# Altium footprint library PCB.PcbLib: 60 footprints (part 3 of 4)
Each footprint in its own frame and in the unit in brackets; x right, y up, seen from the top. Pads: shape width x height; smd on the part's side, far side on the other; paste and mask are expansions set on the pad; w line width, h text height; cw(c..) or ccw(c..) is an arc to the next point about the centre after c.
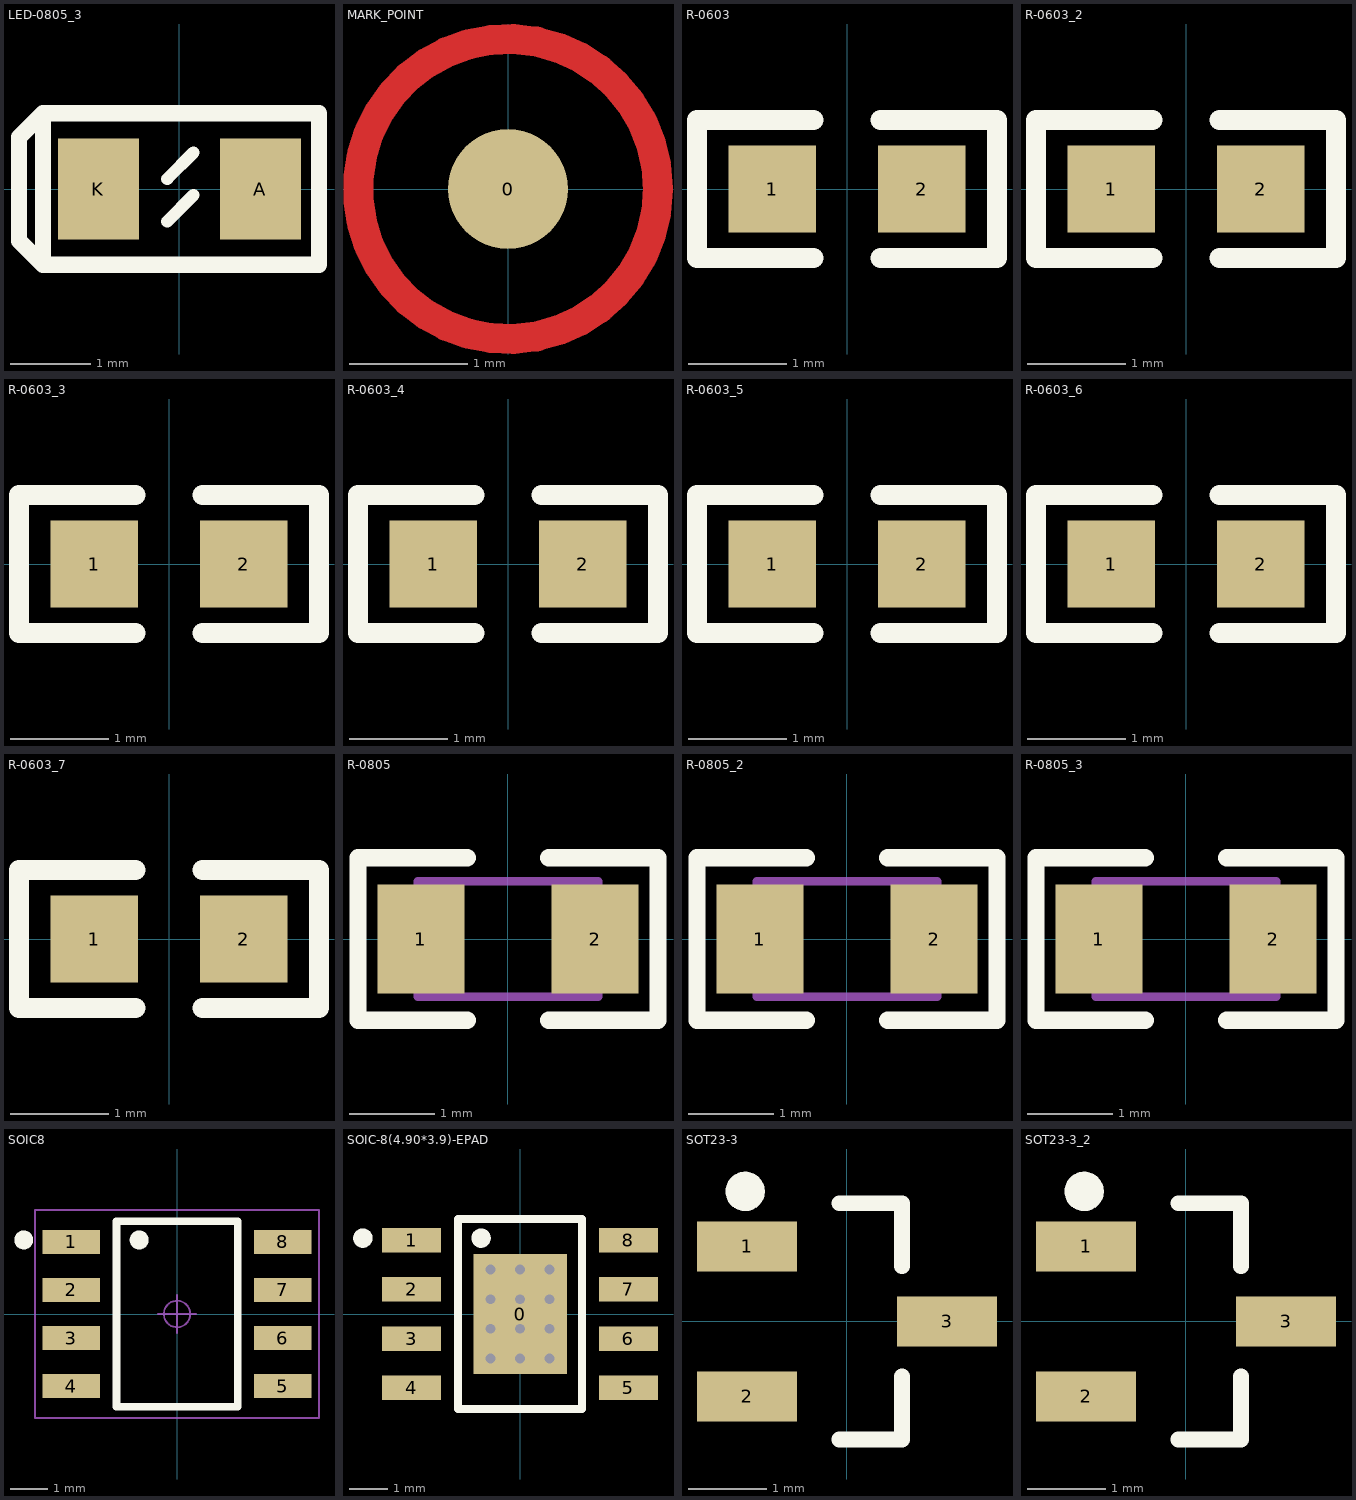
[diagram p2: the footprints below, top view; thin cyan lines are the x and y axes]

## LED-0805_3 [mil]
pads (2):
  rect 40x50 smd: A(40,0) K(-40,0)
Top Overlay:
  lines w6: -6,-16 7,-3 ; -6,5 7,18
  lines w8: -67.32,-37.4 -79.13,-25.59 -79.13,25.59 -67.32,37.4 ; -67.32,-37.4 -67.32,37.4 ; -67.32,-37.4 68.9,-37.4 68.9,37.4 -67.32,37.4
3D body: height 39.37, standoff 0, extent -60,-25 60,25

## MARK_POINT [mil]
height 236.22
pads (1):
  round 40 smd: 0(0,0)
Top Layer:
  circle w10: c0,0 r50
Top Solder:
  circle w20: c0,0 r30

## R-0603 [mil] "Chip Resistor, 2-Leads, Body 1.60x0.80mm, IPC Medium Density"
height 17.72
pads (2):
  rect 35x35 smd: 1(-30,0) 2(30,0)
Top Overlay:
  lines w8: -13.36,-27.56 -60,-27.56 -60,27.56 -13.36,27.56 ; 13.36,-27.56 60,-27.56 60,27.56 13.36,27.56

## R-0603_2 [mil]
pads (2):
  rect 35x35 smd: 1(-30,0) 2(30,0)
Top Overlay:
  lines w8: -13.36,-27.56 -60,-27.56 -60,27.56 -13.36,27.56 ; 13.36,-27.56 60,-27.56 60,27.56 13.36,27.56

## R-0603_3 [mil]
pads (2):
  rect 35x35 smd: 1(-30,0) 2(30,0)
Top Overlay:
  lines w8: -13.36,-27.56 -60,-27.56 -60,27.56 -13.36,27.56 ; 13.36,-27.56 60,-27.56 60,27.56 13.36,27.56

## R-0603_4 [mil]
pads (2):
  rect 35x35 smd: 1(-30,0) 2(30,0)
Top Overlay:
  lines w8: -13.36,-27.56 -60,-27.56 -60,27.56 -13.36,27.56 ; 13.36,-27.56 60,-27.56 60,27.56 13.36,27.56

## R-0603_5 [mil]
pads (2):
  rect 35x35 smd: 1(-30,0) 2(30,0)
Top Overlay:
  lines w8: -13.36,-27.56 -60,-27.56 -60,27.56 -13.36,27.56 ; 13.36,-27.56 60,-27.56 60,27.56 13.36,27.56

## R-0603_6 [mil]
pads (2):
  rect 35x35 smd: 1(-30,0) 2(30,0)
Top Overlay:
  lines w8: -13.36,-27.56 -60,-27.56 -60,27.56 -13.36,27.56 ; 13.36,-27.56 60,-27.56 60,27.56 13.36,27.56

## R-0603_7 [mil]
pads (2):
  rect 35x35 smd: 1(-30,0) 2(30,0)
Top Overlay:
  lines w8: -13.36,-27.56 -60,-27.56 -60,27.56 -13.36,27.56 ; 13.36,-27.56 60,-27.56 60,27.56 13.36,27.56

## R-0805 [mil] "Chip Resistor, 2-Leads, Body 2.00x1.25mm, IPC Medium Density"
height 19.68
pads (2):
  rect 40x50 smd: 1(-40,0) 2(40,0)
Top Overlay:
  lines w8: -18.78,-37.4 -68.9,-37.4 -68.9,37.4 -18.78,37.4 ; 18.78,-37.4 68.9,-37.4 68.9,37.4 18.78,37.4
Mechanical 13:
  lines w3.94: -41.34,-26.57 41.34,-26.57 41.34,26.57 -41.34,26.57 -41.34,-26.57
3D body: height 19.68, standoff 0, extent 27.56,-26.57 41.34,26.57
3D body: height 19.68, standoff 0, extent -41.34,-26.57 -27.56,26.58
3D body: height 19.68, standoff 0, extent -27.56,-26.57 27.56,26.57

## R-0805_2 [mil]
pads (2):
  rect 40x50 smd: 1(-40,0) 2(40,0)
Top Overlay:
  lines w8: -18.78,-37.4 -68.9,-37.4 -68.9,37.4 -18.78,37.4 ; 18.78,-37.4 68.9,-37.4 68.9,37.4 18.78,37.4
Mechanical 13:
  lines w3.94: -41.34,-26.57 41.34,-26.57 41.34,26.57 -41.34,26.57 -41.34,-26.57
3D body: height 19.68, standoff 0, extent 27.56,-26.57 41.34,26.57
3D body: height 19.68, standoff 0, extent -41.34,-26.57 -27.56,26.58
3D body: height 19.68, standoff 0, extent -27.56,-26.57 27.56,26.57

## R-0805_3 [mil]
pads (2):
  rect 40x50 smd: 1(-40,0) 2(40,0)
Top Overlay:
  lines w8: -18.78,-37.4 -68.9,-37.4 -68.9,37.4 -18.78,37.4 ; 18.78,-37.4 68.9,-37.4 68.9,37.4 18.78,37.4
Mechanical 13:
  lines w3.94: -41.34,-26.57 41.34,-26.57 41.34,26.57 -41.34,26.57 -41.34,-26.57
3D body: height 19.68, standoff 0, extent 27.56,-26.57 41.34,26.57
3D body: height 19.68, standoff 0, extent -41.34,-26.57 -27.56,26.58
3D body: height 19.68, standoff 0, extent -27.56,-26.57 27.56,26.57

## SOIC8 [mil]
height 236.22
pads (8):
  rect 60x25 smd: 1(-110,75) 2(-110,25) 3(-110,-25) 4(-110,-75) 5(110,-75) 6(110,-25) 7(110,25) 8(110,75)
Top Overlay:
  circle w9.84: c-159.49,77 r4.92
  circle w9.84: c-39.49,77 r4.92
  lines w7.87: -62.99,-96.46 -62.99,96.46 62.99,96.46 62.99,-96.46 -62.99,-96.46
Mechanical 16:
  circle w1.97: c0,0 r13.78
  lines w1.97: -19.68,0 19.68,0 ; 0,-19.68 0,19.68 ; -147.64,-108.27 147.64,-108.27 147.64,108.27 -147.64,108.27 -147.64,-108.27

## SOIC-8(4.90*3.9)-EPAD [mil] "SOIC, 8-Leads, Body 4.90x3.90mm, Pitch 1.27mm, IPC Medium Density"
height 68.9
pads (9):
  rect 94.88x122.05 smd: 0(0,0)
  rect 60x25 smd: 1(-110,75) 2(-110,25) 3(-110,-25) 4(-110,-75) 5(110,-75) 6(110,-25) 7(110,25) 8(110,75)
via 30,-15 diameter 20 hole 10
via 30,15 diameter 20 hole 10
via 30,45 diameter 20 hole 10
via 0,-15 diameter 20 hole 10
via 0,15 diameter 20 hole 10
via 0,45 diameter 20 hole 10
via -30,45 diameter 20 hole 10
via 30,-45 diameter 20 hole 10
via 0,-45 diameter 20 hole 10
via -30,-45 diameter 20 hole 10
via -30,15 diameter 20 hole 10
via -30,-15 diameter 20 hole 10
Top Overlay:
  circle w9.84: c-159.49,77 r4.92
  circle w9.84: c-39.49,77 r4.92
  lines w7.87: -62.99,-96.46 -62.99,96.46 62.99,96.46 62.99,-96.46 -62.99,-96.46
Mechanical 15:
  lines w1.97: -19.69,0 19.69,0 ; 0,-19.68 0,19.68
  lines w3.94: -19.68,0 19.69,0 ; 0,-19.68 0,19.69
Mechanical 16:
  circle w1.97: c0,0 r13.78
  circle w1.97: c0,0 r13.78

## SOT23-3 [mil] "SOT23, 3-Leads, Body 2.92x2.78mm, Pitch 0.95mm, IPC Medium Density"
height 49.21
pads (3):
  rect 50x25 smd: 1(-50,37.5) 2(-50,-37.5) 3(50,0)
Top Overlay:
  circle w9.84: c-50.92,65 r4.92
  lines w7.87: -3.94,-59.06 27.56,-59.06 27.56,-27.56 ; -3.94,59.06 27.56,59.06 27.56,27.56

## SOT23-3_2 [mil]
pads (3):
  rect 50x25 smd: 1(-50,37.5) 2(-50,-37.5) 3(50,0)
Top Overlay:
  circle w9.84: c-50.92,65 r4.92
  lines w7.87: -3.94,-59.06 27.56,-59.06 27.56,-27.56 ; -3.94,59.06 27.56,59.06 27.56,27.56